# Altium footprint library CL_WE-PD4.PcbLib: 1 footprints
Each footprint in its own frame and in the unit in brackets; x right, y up, seen from the top. Pads: shape width x height; smd on the part's side, far side on the other; paste and mask are expansions set on the pad; w line width, h text height; cw(c..) or ccw(c..) is an arc to the next point about the centre after c.
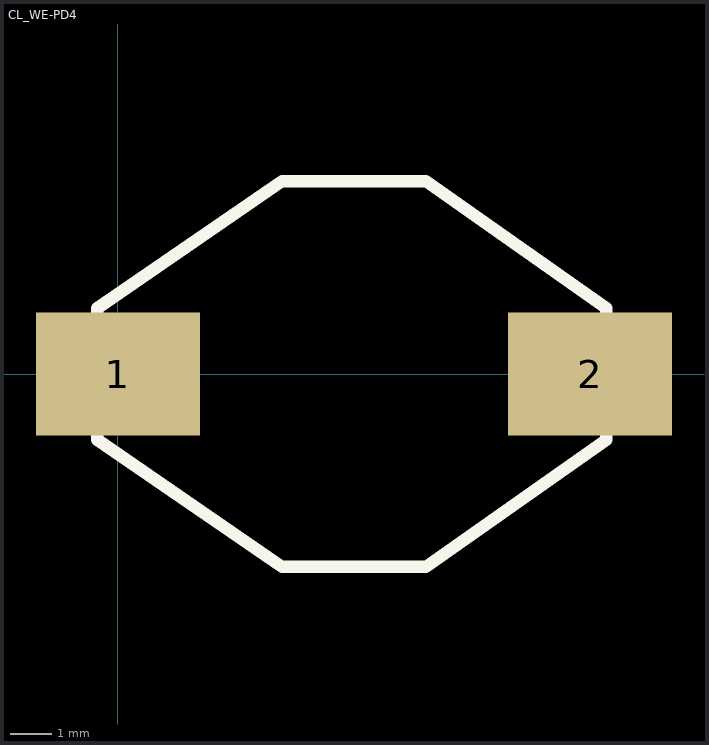
[diagram p0: the footprint, top view; thin cyan lines are the x and y axes]

## CL_WE-PD4 [mm] "Wuerth coil"
pads (2):
  rect 4x3 smd: 1(0,0) 2(11.5,0)
Top Overlay:
  lines w0.305: -0.5,-1.6 4,-4.7 7.5,-4.7 11.9,-1.6 11.9,1.6 7.5,4.7 4,4.7 -0.5,1.6 -0.5,-1.6
3D body: height 5.16, standoff -0.05, extent -0.487,-4.7 11.886,4.7